# Altium integrated library Analog Devices Switches and Multiplexers Multiplexers (Muxes).IntLib: 481 symbols (part 1 of 23)
Pins are listed as number, name and electrical type; pins without a type are passive.

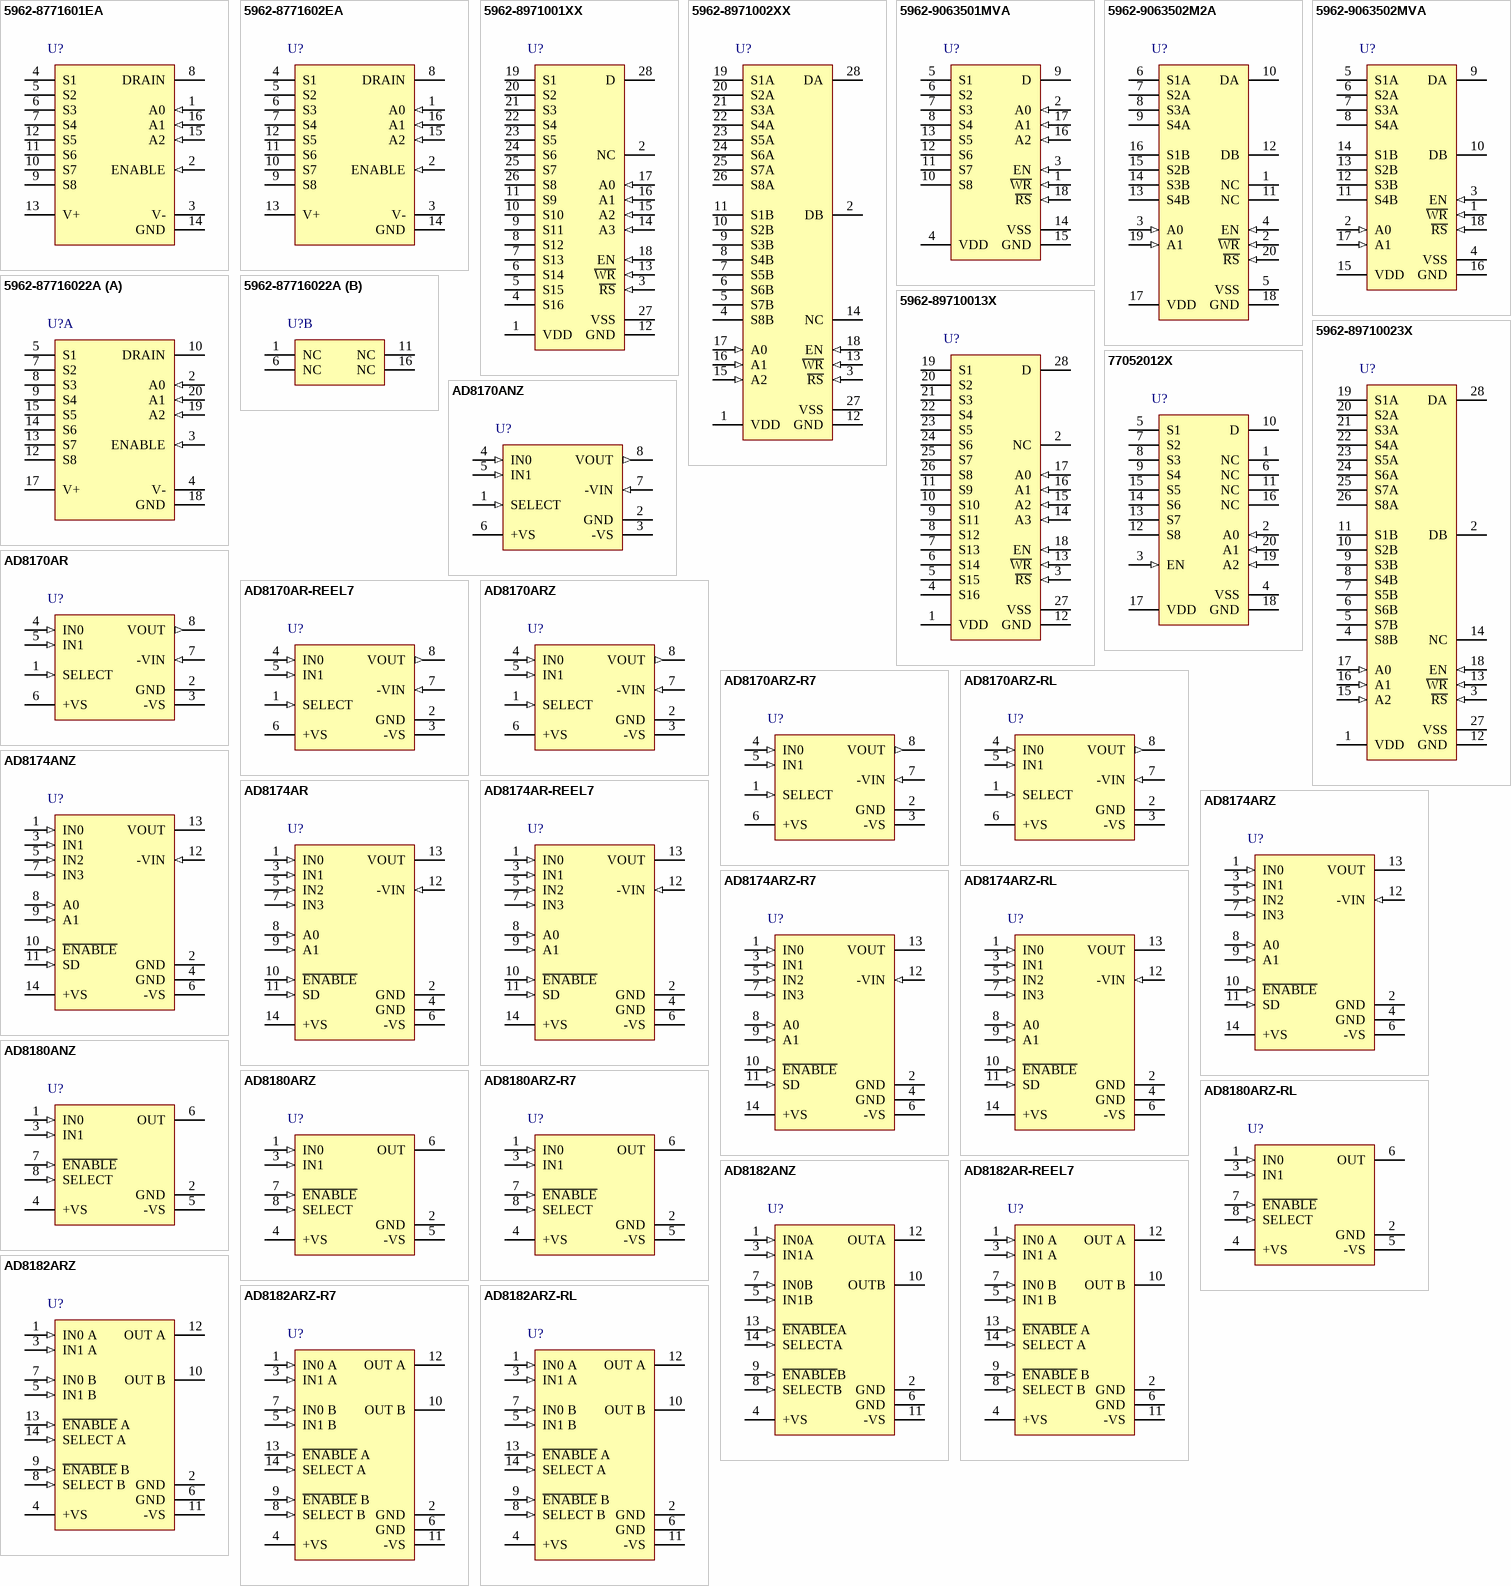
[diagram p0: symbols 5962-8771601EA to AD8182ARZ-RL]

## 5962-8771601EA
designator U?
8-Chan JFET Analog Multiplexer (Overvoltage & Power Supply Loss Protected), -55 to 125 degC, 16-pin DIP (Q-16), Tube; Manufacturer: Analog Devices; PartNumber: 5962-8771601EA; Max Analog Signal Range: +/-10V; Ron (ohms): 220; Supply V Guar Performance: Dual_(+/-15V); t transition (s): 1.5u; DatasheetVersion: Rev. A; PackageVersion: Aug-05; PackageReference: Q-16; PackageDescription: 16-Pin Ceramic Dual In-Line Package, Row spacing 7.62 mm, Pitch 2.54 mm; Supplier 1: Mouser; Supplier Part Number 1: 584-5962-8771601EA; Packing: Tube; Mounting Technology: Through Hole; ComponentLink1Description: Manufacturer URL; ComponentLink1URL: http://www.analog.com/en/index.html; ComponentLink2Description: Datasheet; ComponentLink2URL: http://www.analog.com/static/imported-files/data_sheets/MUX08.pdf; ComponentLink3Description: Package Specification; ComponentLink3URL: http://www.analog.com/static/imported-files/packages/54083157002221Q_16.pdf
footprint ADI-Q-16 (DIP, 16-Leads, Body 21.34x6.73mm, Pitch 2.54mm)
pins: 1 A0 (in), 2 ENABLE (in), 3 V- (power), 4 S1, 5 S2, 6 S3, 7 S4, 8 DRAIN, 9 S8, 10 S7, 11 S6, 12 S5, 13 V+ (power), 14 GND (power), 15 A2 (in), 16 A1 (in)

## 5962-8771602EA
designator U?
8-Chan JFET Analog Multiplexer (Overvoltage & Power Supply Loss Protected), -55 to 125 degC, 20-pin LCC (E-20-1), Tube; Manufacturer: Analog Devices; PartNumber: 5962-8771602EA; Max Analog Signal Range: +/-10V; Ron (ohms): 220; Supply V Guar Performance: Dual_(+/-15V); t transition (s): 1.5u; DatasheetVersion: Rev. A; PackageVersion: Aug-05; PackageReference: Q-16; PackageDescription: 16-Pin Ceramic Dual In-Line Package, Row spacing 7.62 mm, Pitch 2.54 mm; Supplier 1: Mouser; Supplier Part Number 1: 584-5962-8771602EA; Packing: Tube; Mounting Technology: Through Hole; ComponentLink1Description: Manufacturer URL; ComponentLink1URL: http://www.analog.com/en/index.html; ComponentLink2Description: Datasheet; ComponentLink2URL: http://www.analog.com/static/imported-files/data_sheets/MUX08.pdf; ComponentLink3Description: Package Specification; ComponentLink3URL: http://www.analog.com/static/imported-files/packages/54083157002221Q_16.pdf
footprint ADI-Q-16 (DIP, 16-Leads, Body 21.34x6.73mm, Pitch 2.54mm)
pins: 1 A0 (in), 2 ENABLE (in), 3 V- (power), 4 S1, 5 S2, 6 S3, 7 S4, 8 DRAIN, 9 S8, 10 S7, 11 S6, 12 S5, 13 V+ (power), 14 GND (power), 15 A2 (in), 16 A1 (in)

## 5962-8971001XX
designator U?
8-Chan JFET Analog Multiplexer (Overvoltage & Power Supply Loss Protected), -55 to 125 degC, 16-pin DIP (Q-16), Tube; Manufacturer: Analog Devices; PartNumber: 5962-8971001XX; Max Analog Signal Range: Vss to Vdd; Ron (ohms): 280; Supply V Guar Performance: Dual_(+/-12V), Dual_(+/-15V), Single_(+12V), Single_(+15V); t transition (s): 200n; DatasheetVersion: Rev. C; PackageVersion: 030106-A, 03/2006; PackageReference: Q-28-2; PackageDescription: 28-Pin Ceramic Dual In-Line Package, Row spacing 15.24 mm, Pitch 2.54 mm; Supplier 1: Mouser; Supplier Part Number 1: 584-5962-8971001XX; Packing: Tube; Mounting Technology: Through Hole; ComponentLink1Description: Manufacturer URL; ComponentLink1URL: http://www.analog.com/en/index.html; ComponentLink2Description: Datasheet; ComponentLink2URL: http://www.analog.com/static/imported-files/data_sheets/ADG526A_527A.pdf; ComponentLink3Description: Package Specification; ComponentLink3URL: http://www.analog.com/static/imported-files/packages/4045339666127361303Q_28_2.pdf
footprint ADI-Q-28-2 (DIP, 28-Leads, Body 37.85x14.1mm, Pitch 2.54mm)
pins: 1 VDD (power) "Most Positive Power Supply Potential.", 2 NC "No Connect.", 3 ~{RS} (in) "Reset. The R\S\ signal clears both the address and enable data in the latches resulting in no output (all switches off).", 4 S16 "Source Terminal. This pin can be an input or output.", 5 S15 "Source Terminal. This pin can be an input or output.", 6 S14 "Source Terminal. This pin can be an input or output.", 7 S13 "Source Terminal. This pin can be an input or output.", 8 S12 "Source Terminal. This pin can be an input or output.", 9 S11 "Source Terminal. This pin can be an input or output.", 10 S10 "Source Terminal. This pin can be an input or output.", 11 S9 "Source Terminal. This pin can be an input or output.", 12 GND (power) "Ground (0 V) Reference.", 13 ~{WR} (in) "Write. The W\R\ signal latches the state of the address control lines and the enable line.", 14 A3 (in) "Logic Control Inputs. Selects which source terminal is connected to the drain (D).", 15 A2 (in) "Logic Control Inputs. Selects which source terminal is connected to the drain (D).", 16 A1 (in) "Logic Control Inputs. Selects which source terminal is connected to the drain (D).", 17 A0 (in) "Logic Control Inputs. Selects which source terminal is connected to the drain (D).", 18 EN (in) "Enable. Active high logic control input.", 19 S1 "Source Terminal. This pin can be an input or output.", 20 S2 "Source Terminal. This pin can be an input or output.", 21 S3 "Source Terminal. This pin can be an input or output.", 22 S4 "Source Terminal. This pin can be an input or output.", 23 S5 "Source Terminal. This pin can be an input or output.", 24 S6 "Source Terminal. This pin can be an input or output.", 25 S7 "Source Terminal. This pin can be an input or output.", 26 S8 "Source Terminal. This pin can be an input or output.", 27 VSS (power) "Most Negative Power Supply Potential", 28 D "Drain Terminal. Can be an input or an output."

## 5962-8971002XX
designator U?
CMOS Latched 16-Channel Analog Multiplexer, -55 to 125 degC, 28-pin LCC (E-28-1), Tube; Manufacturer: Analog Devices; PartNumber: 5962-8971002XX; Max Analog Signal Range: Vss to Vdd; Ron (ohms): 280; Supply V Guar Performance: Dual_(+/-12V), Dual_(+/-15V), Single_(+12V), Single_(+15V); t transition (s): 200n; DatasheetVersion: Rev. C; PackageVersion: 030106-A, 03/2006; PackageReference: Q-28-2; PackageDescription: 28-Pin Ceramic Dual In-Line Package, Row spacing 15.24 mm, Pitch 2.54 mm; Supplier 1: Mouser; Supplier Part Number 1: N/A; Packing: Tube; Mounting Technology: Through Hole; ComponentLink1Description: Manufacturer URL; ComponentLink1URL: http://www.analog.com/en/index.html; ComponentLink2Description: Datasheet; ComponentLink2URL: http://www.analog.com/static/imported-files/data_sheets/ADG526A_527A.pdf; ComponentLink3Description: Package Specification; ComponentLink3URL: http://www.analog.com/static/imported-files/packages/4045339666127361303Q_28_2.pdf
footprint ADI-Q-28-2 (DIP, 28-Leads, Body 37.85x14.1mm, Pitch 2.54mm)
pins: 1 VDD (power) "Most Positive Power Supply Potential.", 2 DB "Drain Terminal. This pin can be an input or output.", 3 ~{RS} (in) "Reset. The R\S\ signal clears both the address and enable data in the latches resulting in no output (all switches off).", 4 S8B "Source Terminal. This pin can be an input or output.", 5 S7B "Source Terminal. This pin can be an input or output.", 6 S6B "Source Terminal. This pin can be an input or output.", 7 S5B "Source Terminal. This pin can be an input or output.", 8 S4B "Source Terminal. This pin can be an input or output.", 9 S3B "Source Terminal. This pin can be an input or output.", 10 S2B "Source Terminal. This pin can be an input or output.", 11 S1B "Source Terminal. This pin can be an input or output.", 12 GND (power) "Ground (0 V) Reference.", 13 ~{WR} (in) "Write. The W\R\ signal latches the state of the address control lines and the enable line.", 14 NC "No Connect.", 15 A2 (in) "Logic Control Inputs. Selects which source terminal is connected to the drain (D).", 16 A1 (in) "Logic Control Inputs. Selects which source terminal is connected to the drain (D).", 17 A0 (in) "Logic Control Inputs. Selects which source terminal is connected to the drain (D).", 18 EN (in) "Enable. Active high logic control input.", 19 S1A "Source Terminal. This pin can be an input or output.", 20 S2A "Source Terminal. This pin can be an input or output.", 21 S3A "Source Terminal. This pin can be an input or output.", 22 S4A "Source Terminal. This pin can be an input or output.", 23 S5A "Source Terminal. This pin can be an input or output.", 24 S6A "Source Terminal. This pin can be an input or output.", 25 S7A "Source Terminal. This pin can be an input or output.", 26 S8A "Source Terminal. This pin can be an input or output.", 27 VSS (power) "Most Negative Power Supply Potential.", 28 DA "Drain Terminal. This pin can be an input or output."

## 5962-9063501MVA
designator U?
CMOS Latched 16-Channel Analog Multiplexer, -55 to 125 degC, 28-pin DIP (Q-28-2), Tube; Manufacturer: Analog Devices; PartNumber: 5962-9063501MVA; Max Analog Signal Range: Vss to Vdd; Ron (ohms): 280; Supply V Guar Performance: Dual_(+/-12V), Dual_(+/-15V), Single_(+12V), Single_(+15V); t transition (s): 200n; DatasheetVersion: Rev. B; PackageVersion: Dec-04; PackageReference: Q-18; PackageDescription: 18-Pin Ceramic Dual In-Line Package, Row spacing 7.62 mm, Pitch 2.54 mm; Supplier 1: Mouser; Supplier Part Number 1: N/A; Packing: Tube; Mounting Technology: Through Hole; ComponentLink1Description: Manufacturer URL; ComponentLink1URL: http://www.analog.com/en/index.html; ComponentLink2Description: Datasheet; ComponentLink2URL: http://www.analog.com/static/imported-files/data_sheets/ADG528A_529A.pdf; ComponentLink3Description: Package Specification; ComponentLink3URL: http://www.analog.com/static/imported-files/packages/3949539816247344490Q_18.pdf
footprint ADI-Q-18 (DIP, 18-Leads, Body 24.38x6.73mm, Pitch 2.54mm)
pins: 1 ~{WR} (in), 2 A0 (in), 3 EN (in), 4 VDD (power), 5 S1, 6 S2, 7 S3, 8 S4, 9 D, 10 S8, 11 S7, 12 S6, 13 S5, 14 VSS (power), 15 GND (power), 16 A2 (in), 17 A1 (in), 18 ~{RS} (in)

## 5962-9063502M2A
designator U?
CMOS Latched 8-Channel Analog Multiplexer, -55 to 125 degC, 28-pin LCC (E-28-1), Tube; Manufacturer: Analog Devices; PartNumber: 5962-9063502M2A; Max Analog Signal Range: Vss to Vdd; Ron (ohms): 280; Supply V Guar Performance: Dual_(+/-12V), Dual_(+/-15V), Single_(+12V), Single_(+15V); t transition (s): 200n; DatasheetVersion: Rev. B; PackageVersion: Nov-02; PackageReference: P-20A; PackageDescription: 20-Pin Plastic Leaded Chip Carrier, Body 8.97 x 8.97 mm, Pitch 1.27 mm; Supplier 1: Mouser; Supplier Part Number 1: N/A; Packing: Tube; Mounting Technology: Surface Mount; Code_JEDEC: MO-047AA; ComponentLink1Description: Manufacturer URL; ComponentLink1URL: http://www.analog.com/en/index.html; ComponentLink2Description: Datasheet; ComponentLink2URL: http://www.analog.com/static/imported-files/data_sheets/ADG528A_529A.pdf; ComponentLink3Description: Package Specification; ComponentLink3URL: http://www.analog.com/static/imported-files/packages/3121431516544404277643669223804694P20A.pdf
footprint ADI-P-20A_N (PLCC, 20-Leads, Body 8.965x8.965mm, Pitch 1.27mm, IPC Medium Density)
footprint ADI-P-20A_L (PLCC, 20-Leads, Body 8.965x8.965mm, Pitch 1.27mm, IPC High Density)
footprint ADI-P-20A_M (PLCC, 20-Leads, Body 8.965x8.965mm, Pitch 1.27mm, IPC Low Density)
pins: 1 NC, 2 ~{WR} (in), 3 A0 (in), 4 EN (in), 5 VSS (power), 6 S1A, 7 S2A, 8 S3A, 9 S4A, 10 DA, 11 NC, 12 DB, 13 S4B, 14 S3B, 15 S2B, 16 S1B, 17 VDD (power), 18 GND (power), 19 A1 (in), 20 ~{RS} (in)

## 5962-9063502MVA
designator U?
CMOS Latched 8-Channel Analog Multiplexer, -55 to 125 degC, 28-pin DIP (Q-28-2), Tube; Manufacturer: Analog Devices; PartNumber: 5962-9063502MVA; Max Analog Signal Range: Vss to Vdd; Ron (ohms): 280; Supply V Guar Performance: Dual_(+/-12V), Dual_(+/-15V), Single_(+12V), Single_(+15V); t transition (s): 200n; DatasheetVersion: Rev. B; PackageVersion: Dec-04; PackageReference: Q-18; PackageDescription: 18-Pin Ceramic Dual In-Line Package, Row spacing 7.62 mm, Pitch 2.54 mm; Supplier 1: Mouser; Supplier Part Number 1: N/A; Packing: Tube; Mounting Technology: Through Hole; ComponentLink1Description: Manufacturer URL; ComponentLink1URL: http://www.analog.com/en/index.html; ComponentLink2Description: Datasheet; ComponentLink2URL: http://www.analog.com/static/imported-files/data_sheets/ADG528A_529A.pdf; ComponentLink3Description: Package Specification; ComponentLink3URL: http://www.analog.com/static/imported-files/packages/3949539816247344490Q_18.pdf
footprint ADI-Q-18 (DIP, 18-Leads, Body 24.38x6.73mm, Pitch 2.54mm)
pins: 1 ~{WR} (in), 2 A0 (in), 3 EN (in), 4 VSS (power) "Most negative voltage supply", 5 S1A, 6 S2A, 7 S3A, 8 S4A, 9 DA, 10 DB, 11 S4B, 12 S3B, 13 S2B, 14 S1B, 15 VDD (power) "Most positive voltage supply", 16 GND (power), 17 A1 (in), 18 ~{RS} (in)

## 5962-87716022A
designator U?
CMOS Latched 8-Channel Analog Multiplexer, 0 to 70 degC, 18-pin DIP (Q-18), Tube; Manufacturer: Analog Devices; PartNumber: 5962-87716022A; Max Analog Signal Range: +/-10V; Ron (ohms): 220; Supply V Guar Performance: Dual_(+/-15V); t transition (s): 1.5u; DatasheetVersion: Rev. A; PackageVersion: 022106-A, 02/2006; PackageReference: E-20-1; PackageDescription: 20-Terminal Ceramic Leadless Chip Carrier, Body 8.89 x 8.89 mm, Pitch 1.27 mm; Supplier 1: Mouser; Supplier Part Number 1: 584-5962-87716022A; Packing: Tube; Mounting Technology: Surface Mount; ComponentLink1Description: Manufacturer URL; ComponentLink1URL: http://www.analog.com/en/index.html; ComponentLink2Description: Datasheet; ComponentLink2URL: http://www.analog.com/static/imported-files/data_sheets/MUX08.pdf; ComponentLink3Description: Package Specification; ComponentLink3URL: http://www.analog.com/static/imported-files/packages/PKG_PDF/LCC(E)/E_20_1.pdf
footprint ADI-E-20-1_N (LCC, 20-Leads, Body 8.9x8.9mm, Pitch 1.27mm, IPC Medium Density)
footprint ADI-E-20-1_L (LCC, 20-Leads, Body 8.9x8.9mm, Pitch 1.27mm, IPC High Density)
footprint ADI-E-20-1_M (LCC, 20-Leads, Body 8.9x8.9mm, Pitch 1.27mm, IPC Low Density)
part A pins: 2 A0 (in), 3 ENABLE (in), 4 V- (power), 5 S1, 7 S2, 8 S3, 9 S4, 10 DRAIN, 12 S8, 13 S7, 14 S6, 15 S5, 17 V+ (power), 18 GND (power), 19 A2 (in), 20 A1 (in)
part B pins: 1 NC, 6 NC, 11 NC, 16 NC

## 5962-89710013X
designator U?
CMOS Latched 8-Channel Analog Multiplexer, -55 to 125 degC, 20-pin LCC (E-20-1), Tube; Manufacturer: Analog Devices; PartNumber: 5962-89710013X; Max Analog Signal Range: Vss to Vdd; Ron (ohms): 280; Supply V Guar Performance: Dual_(+/-12V), Dual_(+/-15V), Single_(+12V), Single_(+15V); t transition (s): 200n; DatasheetVersion: Rev. C; PackageVersion: 022106-A, 02/2006; PackageReference: E-28-1; PackageDescription: 28-Terminal Ceramic Leadless Chip Carrier, Body 11.43 x 11.43 mm, Pitch 1.27 mm; Supplier 1: Mouser; Supplier Part Number 1: 584-5962-89710013X; Packing: Tube; Mounting Technology: Surface Mount; ComponentLink1Description: Manufacturer URL; ComponentLink1URL: http://www.analog.com/en/index.html; ComponentLink2Description: Datasheet; ComponentLink2URL: http://www.analog.com/static/imported-files/data_sheets/ADG526A_527A.pdf; ComponentLink3Description: Package Specification; ComponentLink3URL: http://www.analog.com/static/imported-files/packages/PKG_PDF/LCC(E)/E_28_1.pdf
footprint ADI-E-28-1_N (LCC, 28-Leads, Body 11.43x11.43mm, Pitch 1.27mm, IPC Medium Density)
footprint ADI-E-28-1_L (LCC, 28-Leads, Body 11.43x11.43mm, Pitch 1.27mm, IPC High Density)
footprint ADI-E-28-1_M (LCC, 28-Leads, Body 11.43x11.43mm, Pitch 1.27mm, IPC Low Density)
pins: 1 VDD (power) "Most Positive Power Supply Potential.", 2 NC "No Connect.", 3 ~{RS} (in) "Reset. The RS signal clears both the address and enable data in the latches resulting in no output (all switches off).", 4 S16 "Source Terminal. This pin can be an input or output.", 5 S15 "Source Terminal. This pin can be an input or output.", 6 S14 "Source Terminal. This pin can be an input or output.", 7 S13 "Source Terminal. This pin can be an input or output.", 8 S12 "Source Terminal. This pin can be an input or output.", 9 S11 "Source Terminal. This pin can be an input or output.", 10 S10 "Source Terminal. This pin can be an input or output.", 11 S9 "Source Terminal. This pin can be an input or output.", 12 GND (power) "Ground (0 V) Reference.", 13 ~{WR} (in) "Write. The WR signal latches the state of the address control lines and the enable line.", 14 A3 (in) "Logic Control Input. Selects which source terminal is connected to the drain (D).", 15 A2 (in) "Logic Control Input. Selects which source terminal is connected to the drain (D).", 16 A1 (in) "Logic Control Input. Selects which source terminal is connected to the drain (D).", 17 A0 (in) "Logic Control Input. Selects which source terminal is connected to the drain (D).", 18 EN (in) "Enable. Active high logic control input.", 19 S1 "Source Terminal. This pin can be an input or output.", 20 S2 "Source Terminal. This pin can be an input or output.", 21 S3 "Source Terminal. This pin can be an input or output.", 22 S4 "Source Terminal. This pin can be an input or output.", 23 S5 "Source Terminal. This pin can be an input or output.", 24 S6 "Source Terminal. This pin can be an input or output.", 25 S7 "Source Terminal. This pin can be an input or output.", 26 S8 "Source Terminal. This pin can be an input or output.", 27 VSS (power) "Most Negative Power Supply Potential.", 28 D "Drain Terminal. This pin can be an input or output."

## 5962-89710023X
designator U?
CMOS Latched 8-Channel Analog Multiplexer, -55 to 125 degC, 18-pin DIP (Q-18), Tube; Manufacturer: Analog Devices; PartNumber: 5962-89710023X; Max Analog Signal Range: Vss to Vdd; Ron (ohms): 280; Supply V Guar Performance: Dual_(+/-12V), Dual_(+/-15V), Single_(+12V), Single_(+15V); t transition (s): 200n; DatasheetVersion: Rev. C; PackageVersion: 022106-A, 02/2006; PackageReference: E-28-1; PackageDescription: 28-Terminal Ceramic Leadless Chip Carrier, Body 11.43 x 11.43 mm, Pitch 1.27 mm; Supplier 1: Mouser; Supplier Part Number 1: N/A; Packing: Tube; Mounting Technology: Surface Mount; ComponentLink1Description: Manufacturer URL; ComponentLink1URL: http://www.analog.com/en/index.html; ComponentLink2Description: Datasheet; ComponentLink2URL: http://www.analog.com/static/imported-files/data_sheets/ADG526A_527A.pdf; ComponentLink3Description: Package Specification; ComponentLink3URL: http://www.analog.com/static/imported-files/packages/PKG_PDF/LCC(E)/E_28_1.pdf
footprint ADI-E-28-1_N (LCC, 28-Leads, Body 11.43x11.43mm, Pitch 1.27mm, IPC Medium Density)
footprint ADI-E-28-1_L (LCC, 28-Leads, Body 11.43x11.43mm, Pitch 1.27mm, IPC High Density)
footprint ADI-E-28-1_M (LCC, 28-Leads, Body 11.43x11.43mm, Pitch 1.27mm, IPC Low Density)
pins: 1 VDD (power) "Most Positive Power Supply Potential.", 2 DB "Drain Terminal. This pin can be an input or output.", 3 ~{RS} (in) "Reset. The R\S\ signal clears both the address and enable data in the latches resulting in no output (all switches off).", 4 S8B "Source Terminal. This pin can be an input or output.", 5 S7B "Source Terminal. This pin can be an input or output.", 6 S6B "Source Terminal. This pin can be an input or output.", 7 S5B "Source Terminal. This pin can be an input or output.", 8 S4B "Source Terminal. This pin can be an input or output.", 9 S3B "Source Terminal. This pin can be an input or output.", 10 S2B "Source Terminal. This pin can be an input or output.", 11 S1B "Source Terminal. This pin can be an input or output.", 12 GND (power) "Ground (0 V) Reference.", 13 ~{WR} (in) "Write. The W\R\ signal latches the state of the address control lines and the enable line.", 14 NC "No Connect.", 15 A2 (in) "Logic Control Inputs. Selects which source terminal is connected to the drain (D).", 16 A1 (in) "Logic Control Inputs. Selects which source terminal is connected to the drain (D).", 17 A0 (in) "Logic Control Inputs. Selects which source terminal is connected to the drain (D).", 18 EN (in) "Enable. Active high logic control input.", 19 S1A "Source Terminal. This pin can be an input or output.", 20 S2A "Source Terminal. This pin can be an input or output.", 21 S3A "Source Terminal. This pin can be an input or output.", 22 S4A "Source Terminal. This pin can be an input or output.", 23 S5A "Source Terminal. This pin can be an input or output.", 24 S6A "Source Terminal. This pin can be an input or output.", 25 S7A "Source Terminal. This pin can be an input or output.", 26 S8A "Source Terminal. This pin can be an input or output.", 27 VSS (power) "Most Negative Power Supply Potential.", 28 DA "Drain Terminal. This pin can be an input or output."

## 77052012X
designator U?
CMOS 8-Channel Analog Multiplexer, 280 Ohm Ron, 20-pin LCC (E-20-1), Tube; Manufacturer: Analog Devices; PartNumber: 77052012X; Max Analog Signal Range: Vss to Vdd; Ron (ohms): 280; t transition (s): 200n; DatasheetVersion: Rev. A; PackageVersion: 022106-A, 02/2006; PackageReference: E-20-1; PackageDescription: 20-Terminal Ceramic Leadless Chip Carrier, Body 8.89 x 8.89 mm, Pitch 1.27 mm; Supplier 1: Digi-Key; Supplier Part Number 1: 77052012X-ND; Supplier 2: Mouser; Supplier Part Number 2: N/A; Packing: Tube; Mounting Technology: Surface Mount; ComponentLink1Description: Manufacturer URL; ComponentLink1URL: http://www.analog.com/en/index.html; ComponentLink2Description: Datasheet; ComponentLink2URL: http://www.analog.com/static/imported-files/data_sheets/ADG508A_509A.pdf; ComponentLink3Description: Package Specification; ComponentLink3URL: http://www.analog.com/static/imported-files/packages/PKG_PDF/LCC(E)/E_20_1.pdf
footprint ADI-E-20-1_N (LCC, 20-Leads, Body 8.9x8.9mm, Pitch 1.27mm, IPC Medium Density)
footprint ADI-E-20-1_L (LCC, 20-Leads, Body 8.9x8.9mm, Pitch 1.27mm, IPC High Density)
footprint ADI-E-20-1_M (LCC, 20-Leads, Body 8.9x8.9mm, Pitch 1.27mm, IPC Low Density)
pins: 1 NC "No Connect.", 2 A0 (in) "Logic Control Input.", 3 EN (in) "Active High Digital Input. When low, the device is disabled and all switches are off.When high, Ax logic inputs determine on switches.", 4 VSS (power) "Most Negative Power Supply Potential in Dual Supplies. In single-supply applications, it can be connected to ground.", 5 S1 "Source Terminal 1. Can be an input or an output.", 6 NC "No Connect.", 7 S2 "Source Terminal 2. Can be an input or an output.", 8 S3 "Source Terminal 3. Can be an input or an output.", 9 S4 "Source Terminal 4. Can be an input or an output.", 10 D "Drain Terminal. Can be an input or an output.", 11 NC "No Connect.", 12 S8 "Source Terminal 8. Can be an input or an output.", 13 S7 "Source Terminal 7. Can be an input or an output.", 14 S6 "Source Terminal 6. Can be an input or an output.", 15 S5 "Source Terminal 5. Can be an input or an output.", 16 NC "No Connect.", 17 VDD (power) "Most Positive Power Supply Potential.", 18 GND (power) "Ground (0 V) Reference.", 19 A2 (in) "Logic Control Input.", 20 A1 (in) "Logic Control Input."

## AD8170ANZ
designator U?
250 MHz, 10 ns Switching Multiplexer with Amplifier, -40 to 85 degC, 8-pin DIP (N-8), Tube; Manufacturer: Analog Devices; PartNumber: AD8170ANZ; Bandwidth (Hz): 250M; Max Analog Signal Range: +/-3.3V; Supply V Guar Performance: Dual_(+/-5V); t transition (s): 9.1n; DatasheetVersion: Rev. 0; PackageVersion: 070606-A, 07/2006; PackageReference: N-8; PackageDescription: 8-Pin Plastic Dual In-Line Package, Row spacing 7.62 mm, Pitch 2.54 mm; Supplier 1: Digi-Key; Supplier Part Number 1: AD8170ANZ-ND; Supplier 2: Farnell; Supplier Part Number 2: 1079331; Supplier 3: Newark; Supplier Part Number 3: 19M0939; Supplier 4: Mouser; Supplier Part Number 4: 584-AD8170ANZ; Packing: Tube; Mounting Technology: Through Hole; Code_JEDEC: MS-001; ComponentLink1Description: Manufacturer URL; ComponentLink1URL: http://www.analog.com/en/index.html; ComponentLink2Description: Datasheet; ComponentLink2URL: http://www.analog.com/static/imported-files/data_sheets/AD8170_8174.pdf; ComponentLink3Description: Package Specification; ComponentLink3URL: http:/www.analog.com/static/imported-files/packages/PKG_PDF/PDIP(N)/N_8.pdf
footprint ADI-N-8 (DIP, 8-Leads, Body 9.59x6.6mm, Pitch 2.54mm)
pins: 1 SELECT (in), 2 GND (power), 3 -VS (power), 4 IN0 (in), 5 IN1 (in), 6 +VS (power), 7 -VIN (in), 8 VOUT (out)

## AD8170AR
designator U?
250 MHz, 10 ns Switching Multiplexer with Amplifier, -40 to 85 degC, 8-pin SOIC (R-8), Tube; Manufacturer: Analog Devices; PartNumber: AD8170AR; Bandwidth (Hz): 250M; Max Analog Signal Range: +/-3.3V; Supply V Guar Performance: Dual_(+/-5V); t transition (s): 9.1n; DatasheetVersion: Rev. 0; PackageVersion: 060506-A, 06/2006; PackageReference: R-8; PackageDescription: 8-Pin Standard Small Outline Package, Body 4.9 x 3.9 mm, Pitch 1.27 mm; Supplier 1: Digi-Key; Supplier Part Number 1: AD8170AR-ND; Supplier 2: Mouser; Supplier Part Number 2: 584-AD8170AR; Packing: Tube; Mounting Technology: Surface Mount; Code_JEDEC: MS-012-AA; ComponentLink1Description: Manufacturer URL; ComponentLink1URL: http://www.analog.com/en/index.html; ComponentLink2Description: Datasheet; ComponentLink2URL: http://www.analog.com/static/imported-files/data_sheets/AD8170_8174.pdf; ComponentLink3Description: Package Specification; ComponentLink3URL: http://www.analog.com/static/imported-files/packages/PKG_PDF/SOIC_Narrow%20(R)/R_8.pdf
footprint ADI-R-8_N (SOIC, 8-Leads, Body 4.9x3.9mm, Pitch 1.27mm, IPC Medium Density)
footprint ADI-R-8_L (SOIC, 8-Leads, Body 4.9x3.9mm, Pitch 1.27mm, IPC High Density)
footprint ADI-R-8_M (SOIC, 8-Leads, Body 4.9x3.9mm, Pitch 1.27mm, IPC Low Density)
pins: 1 SELECT (in), 2 GND (power), 3 -VS (power), 4 IN0 (in), 5 IN1 (in), 6 +VS (power), 7 -VIN (in), 8 VOUT (out)

## AD8170AR-REEL7
designator U?
250 MHz, 10 ns Switching Multiplexer with Amplifier, -40 to 85 degC, 8-pin SOIC (R-8), Reel; Manufacturer: Analog Devices; PartNumber: AD8170AR-REEL7; Bandwidth (Hz): 250M; Max Analog Signal Range: +/-3.3V; Supply V Guar Performance: Dual_(+/-5V); t transition (s): 9.1n; DatasheetVersion: Rev. 0; PackageVersion: 060506-A, 06/2006; PackageReference: R-8; PackageDescription: 8-Pin Standard Small Outline Package, Body 4.9 x 3.9 mm, Pitch 1.27 mm; Supplier 1: Digi-Key; Supplier Part Number 1: AD8170AR-REEL7-ND; Supplier 2: Newark; Supplier Part Number 2: 09B6476; Supplier 3: Mouser; Supplier Part Number 3: 584-AD8170AR-R7; Packing: Reel; Mounting Technology: Surface Mount; Code_JEDEC: MS-012-AA; ComponentLink1Description: Manufacturer URL; ComponentLink1URL: http://www.analog.com/en/index.html; ComponentLink2Description: Datasheet; ComponentLink2URL: http://www.analog.com/static/imported-files/data_sheets/AD8170_8174.pdf; ComponentLink3Description: Package Specification; ComponentLink3URL: http://www.analog.com/static/imported-files/packages/PKG_PDF/SOIC_Narrow%20(R)/R_8.pdf
footprint ADI-R-8_N (SOIC, 8-Leads, Body 4.9x3.9mm, Pitch 1.27mm, IPC Medium Density)
footprint ADI-R-8_L (SOIC, 8-Leads, Body 4.9x3.9mm, Pitch 1.27mm, IPC High Density)
footprint ADI-R-8_M (SOIC, 8-Leads, Body 4.9x3.9mm, Pitch 1.27mm, IPC Low Density)
pins: 1 SELECT (in), 2 GND (power), 3 -VS (power), 4 IN0 (in), 5 IN1 (in), 6 +VS (power), 7 -VIN (in), 8 VOUT (out)

## AD8170ARZ
designator U?
250 MHz, 10 ns Switching Multiplexer with Amplifier, -40 to 85 degC, 8-pin SOIC (R-8), Tube; Manufacturer: Analog Devices; PartNumber: AD8170ARZ; Bandwidth (Hz): 250M; Max Analog Signal Range: +/-3.3V; Supply V Guar Performance: Dual_(+/-5V); t transition (s): 9.1n; DatasheetVersion: Rev. 0; PackageVersion: 060506-A, 06/2006; PackageReference: R-8; PackageDescription: 8-Pin Standard Small Outline Package, Body 4.9 x 3.9 mm, Pitch 1.27 mm; Supplier 1: Digi-Key; Supplier Part Number 1: AD8170ARZ-ND; Supplier 2: Newark; Supplier Part Number 2: 88H0181; Supplier 3: Mouser; Supplier Part Number 3: 584-AD8170ARZ; Packing: Tube; Mounting Technology: Surface Mount; Code_JEDEC: MS-012-AA; ComponentLink1Description: Manufacturer URL; ComponentLink1URL: http://www.analog.com/en/index.html; ComponentLink2Description: Datasheet; ComponentLink2URL: http://www.analog.com/static/imported-files/data_sheets/AD8170_8174.pdf; ComponentLink3Description: Package Specification; ComponentLink3URL: http://www.analog.com/static/imported-files/packages/PKG_PDF/SOIC_Narrow%20(R)/R_8.pdf
footprint ADI-R-8_N (SOIC, 8-Leads, Body 4.9x3.9mm, Pitch 1.27mm, IPC Medium Density)
footprint ADI-R-8_L (SOIC, 8-Leads, Body 4.9x3.9mm, Pitch 1.27mm, IPC High Density)
footprint ADI-R-8_M (SOIC, 8-Leads, Body 4.9x3.9mm, Pitch 1.27mm, IPC Low Density)
pins: 1 SELECT (in), 2 GND (power), 3 -VS (power), 4 IN0 (in), 5 IN1 (in), 6 +VS (power), 7 -VIN (in), 8 VOUT (out)

## AD8170ARZ-R7
designator U?
250 MHz, 10 ns Switching Multiplexer with Amplifier, -40 to 85 degC, 8-pin SOIC (R-8), Reel; Manufacturer: Analog Devices; PartNumber: AD8170ARZ-R7; Bandwidth (Hz): 250M; Max Analog Signal Range: +/-3.3V; Supply V Guar Performance: Dual_(+/-5V); t transition (s): 9.1n; DatasheetVersion: Rev. 0; PackageVersion: 060506-A, 06/2006; PackageReference: R-8; PackageDescription: 8-Pin Standard Small Outline Package, Body 4.9 x 3.9 mm, Pitch 1.27 mm; Supplier 1: Digi-Key; Supplier Part Number 1: AD8170ARZ-R7TR-ND; Supplier 2: Digi-Key; Supplier Part Number 2: AD8170ARZ-R7CT-ND; Supplier 3: Digi-Key; Supplier Part Number 3: AD8170ARZ-R7DKR-ND; Supplier 4: Mouser; Supplier Part Number 4: 584-AD8170ARZ-R7; Packing: Reel; Mounting Technology: Surface Mount; Code_JEDEC: MS-012-AA; ComponentLink1Description: Manufacturer URL; ComponentLink1URL: http://www.analog.com/en/index.html; ComponentLink2Description: Datasheet; ComponentLink2URL: http://www.analog.com/static/imported-files/data_sheets/AD8170_8174.pdf; ComponentLink3Description: Package Specification; ComponentLink3URL: http://www.analog.com/static/imported-files/packages/PKG_PDF/SOIC_Narrow%20(R)/R_8.pdf
footprint ADI-R-8_N (SOIC, 8-Leads, Body 4.9x3.9mm, Pitch 1.27mm, IPC Medium Density)
footprint ADI-R-8_L (SOIC, 8-Leads, Body 4.9x3.9mm, Pitch 1.27mm, IPC High Density)
footprint ADI-R-8_M (SOIC, 8-Leads, Body 4.9x3.9mm, Pitch 1.27mm, IPC Low Density)
pins: 1 SELECT (in), 2 GND (power), 3 -VS (power), 4 IN0 (in), 5 IN1 (in), 6 +VS (power), 7 -VIN (in), 8 VOUT (out)

## AD8170ARZ-RL
designator U?
250 MHz, 10 ns Switching Multiplexer with Amplifier, -40 to 85 degC, 8-pin SOIC (R-8), Reel; Manufacturer: Analog Devices; PartNumber: AD8170ARZ-RL; Bandwidth (Hz): 250M; Max Analog Signal Range: +/-3.3V; Supply V Guar Performance: Dual_(+/-5V); t transition (s): 9.1n; DatasheetVersion: Rev. 0; PackageVersion: 060506-A, 06/2006; PackageReference: R-8; PackageDescription: 8-Pin Standard Small Outline Package, Body 4.9 x 3.9 mm, Pitch 1.27 mm; Supplier 1: Digi-Key; Supplier Part Number 1: AD8170ARZ-RL-ND; Supplier 2: Mouser; Supplier Part Number 2: 584-AD8170ARZ-R; Packing: Reel; Mounting Technology: Surface Mount; Code_JEDEC: MS-012-AA; ComponentLink1Description: Manufacturer URL; ComponentLink1URL: http://www.analog.com/en/index.html; ComponentLink2Description: Datasheet; ComponentLink2URL: http://www.analog.com/static/imported-files/data_sheets/AD8170_8174.pdf; ComponentLink3Description: Package Specification; ComponentLink3URL: http://www.analog.com/static/imported-files/packages/PKG_PDF/SOIC_Narrow%20(R)/R_8.pdf
footprint ADI-R-8_N (SOIC, 8-Leads, Body 4.9x3.9mm, Pitch 1.27mm, IPC Medium Density)
footprint ADI-R-8_L (SOIC, 8-Leads, Body 4.9x3.9mm, Pitch 1.27mm, IPC High Density)
footprint ADI-R-8_M (SOIC, 8-Leads, Body 4.9x3.9mm, Pitch 1.27mm, IPC Low Density)
pins: 1 SELECT (in), 2 GND (power), 3 -VS (power), 4 IN0 (in), 5 IN1 (in), 6 +VS (power), 7 -VIN (in), 8 VOUT (out)

## AD8174ANZ
designator U?
250 MHz, 10 ns Switching Multiplexer with Amplifier, -40 to 85 degC, 14-pin DIP (N-14), Tube; Manufacturer: Analog Devices; PartNumber: AD8174ANZ; Bandwidth (Hz): 250M; Max Analog Signal Range: +/-3.3V; Supply V Guar Performance: Dual_(+/-5V); t transition (s): 9.1n; DatasheetVersion: Rev. 0; PackageVersion: 070606-A, 07/2006; PackageReference: N-14; PackageDescription: 14-Pin Plastic Dual In-Line Package, Row spacing 7.62 mm, Pitch 2.54 mm; Supplier 1: Digi-Key; Supplier Part Number 1: AD8174ANZ-ND; Supplier 2: Newark; Supplier Part Number 2: 59K6449; Supplier 3: Mouser; Supplier Part Number 3: 584-AD8174ANZ; Packing: Tube; Mounting Technology: Through Hole; Code_JEDEC: MS-001; ComponentLink1Description: Manufacturer URL; ComponentLink1URL: http://www.analog.com/en/index.html; ComponentLink2Description: Datasheet; ComponentLink2URL: http://www.analog.com/static/imported-files/data_sheets/AD8170_8174.pdf; ComponentLink3Description: Package Specification; ComponentLink3URL: http://www.analog.com/static/imported-files/packages/N_14.pdf
footprint ADI-N-14 (DIP, 14-Leads, Body 19.18x6.605mm, Pitch 2.54mm)
pins: 1 IN0 (in), 2 GND (power), 3 IN1 (in), 4 GND (power), 5 IN2 (in), 6 -VS (power), 7 IN3 (in), 8 A0 (in), 9 A1 (in), 10 ~{ENABLE} (in), 11 SD (in), 12 -VIN (in), 13 VOUT (hiz), 14 +VS (power)

## AD8174AR
designator U?
250 MHz, 10 ns Switching Multiplexer with Amplifier, -40 to 85 degC, 14-pin SOIC (R-14), Tube; Manufacturer: Analog Devices; PartNumber: AD8174AR; Bandwidth (Hz): 250M; Max Analog Signal Range: +/-3.3V; Supply V Guar Performance: Dual_(+/-5V); t transition (s): 9.1n; DatasheetVersion: Rev. 0; PackageVersion: 060606-A , 06/2006; PackageReference: R-14; PackageDescription: 14-Pin Standard Small Outline Package, Body 8.65 x 3.9 mm, Pitch 1.27 mm; Supplier 1: Digi-Key; Supplier Part Number 1: AD8174AR-ND; Supplier 2: Mouser; Supplier Part Number 2: 584-AD8174AR; Packing: Tube; Mounting Technology: Surface Mount; Code_JEDEC: MS-012-AB; ComponentLink1Description: Manufacturer URL; ComponentLink1URL: http://www.analog.com/en/index.html; ComponentLink2Description: Datasheet; ComponentLink2URL: http://www.analog.com/static/imported-files/data_sheets/AD8170_8174.pdf; ComponentLink3Description: Package Specification; ComponentLink3URL: http://www.analog.com/static/imported-files/packages/PKG_PDF/SOIC_Narrow%20(R)/R_14.pdf
footprint ADI-R-14_N (SOIC, 14-Leads, Body 8.65x3.9mm, Pitch 1.27mm, IPC Medium Density)
footprint ADI-R-14_L (SOIC, 14-Leads, Body 8.65x3.9mm, Pitch 1.27mm, IPC High Density)
footprint ADI-R-14_M (SOIC, 14-Leads, Body 8.65x3.9mm, Pitch 1.27mm, IPC Low Density)
pins: 1 IN0 (in), 2 GND (power), 3 IN1 (in), 4 GND (power), 5 IN2 (in), 6 -VS (power), 7 IN3 (in), 8 A0 (in), 9 A1 (in), 10 ~{ENABLE} (in), 11 SD (in), 12 -VIN (in), 13 VOUT (hiz), 14 +VS (power)

## AD8174AR-REEL7
designator U?
250 MHz, 10 ns Switching Multiplexer with Amplifier, -40 to 85 degC, 14-pin SOIC (R-14), Reel; Manufacturer: Analog Devices; PartNumber: AD8174AR-REEL7; Bandwidth (Hz): 250M; Max Analog Signal Range: +/-3.3V; Supply V Guar Performance: Dual_(+/-5V); t transition (s): 9.1n; DatasheetVersion: Rev. 0; PackageVersion: 060606-A , 06/2006; PackageReference: R-14; PackageDescription: 14-Pin Standard Small Outline Package, Body 8.65 x 3.9 mm, Pitch 1.27 mm; Supplier 1: Digi-Key; Supplier Part Number 1: AD8174AR-REEL7-ND; Supplier 2: Newark; Supplier Part Number 2: 09B6479; Supplier 3: Mouser; Supplier Part Number 3: 584-AD8174AR-R7; Packing: Reel; Mounting Technology: Surface Mount; Code_JEDEC: MS-012-AB; ComponentLink1Description: Manufacturer URL; ComponentLink1URL: http://www.analog.com/en/index.html; ComponentLink2Description: Datasheet; ComponentLink2URL: http://www.analog.com/static/imported-files/data_sheets/AD8170_8174.pdf; ComponentLink3Description: Package Specification; ComponentLink3URL: http://www.analog.com/static/imported-files/packages/PKG_PDF/SOIC_Narrow%20(R)/R_14.pdf
footprint ADI-R-14_N (SOIC, 14-Leads, Body 8.65x3.9mm, Pitch 1.27mm, IPC Medium Density)
footprint ADI-R-14_L (SOIC, 14-Leads, Body 8.65x3.9mm, Pitch 1.27mm, IPC High Density)
footprint ADI-R-14_M (SOIC, 14-Leads, Body 8.65x3.9mm, Pitch 1.27mm, IPC Low Density)
pins: 1 IN0 (in), 2 GND (power), 3 IN1 (in), 4 GND (power), 5 IN2 (in), 6 -VS (power), 7 IN3 (in), 8 A0 (in), 9 A1 (in), 10 ~{ENABLE} (in), 11 SD (in), 12 -VIN (in), 13 VOUT (hiz), 14 +VS (power)

## AD8174ARZ
designator U?
250 MHz, 10 ns Switching Multiplexer with Amplifier, -40 to 85 degC, 14-pin SOIC (R-14), Tube; Manufacturer: Analog Devices; PartNumber: AD8174ARZ; Bandwidth (Hz): 250M; Max Analog Signal Range: +/-3.3V; Supply V Guar Performance: Dual_(+/-5V); t transition (s): 9.1n; DatasheetVersion: Rev. 0; PackageVersion: 060606-A , 06/2006; PackageReference: R-14; PackageDescription: 14-Pin Standard Small Outline Package, Body 8.65 x 3.9 mm, Pitch 1.27 mm; Supplier 1: Digi-Key; Supplier Part Number 1: AD8174ARZ-ND; Supplier 2: Farnell; Supplier Part Number 2: 2102506; Supplier 3: Newark; Supplier Part Number 3: 88H0184; Supplier 4: Mouser; Supplier Part Number 4: 584-AD8174ARZ; Packing: Tube; Mounting Technology: Surface Mount; Code_JEDEC: MS-012-AB; ComponentLink1Description: Manufacturer URL; ComponentLink1URL: http://www.analog.com/en/index.html; ComponentLink2Description: Datasheet; ComponentLink2URL: http://www.analog.com/static/imported-files/data_sheets/AD8170_8174.pdf; ComponentLink3Description: Package Specification; ComponentLink3URL: http://www.analog.com/static/imported-files/packages/PKG_PDF/SOIC_Narrow%20(R)/R_14.pdf
footprint ADI-R-14_N (SOIC, 14-Leads, Body 8.65x3.9mm, Pitch 1.27mm, IPC Medium Density)
footprint ADI-R-14_L (SOIC, 14-Leads, Body 8.65x3.9mm, Pitch 1.27mm, IPC High Density)
footprint ADI-R-14_M (SOIC, 14-Leads, Body 8.65x3.9mm, Pitch 1.27mm, IPC Low Density)
pins: 1 IN0 (in), 2 GND (power), 3 IN1 (in), 4 GND (power), 5 IN2 (in), 6 -VS (power), 7 IN3 (in), 8 A0 (in), 9 A1 (in), 10 ~{ENABLE} (in), 11 SD (in), 12 -VIN (in), 13 VOUT (hiz), 14 +VS (power)

## AD8174ARZ-R7
designator U?
250 MHz, 10 ns Switching Multiplexer with Amplifier, -40 to 85 degC, 14-pin SOIC (R-14), Reel; Manufacturer: Analog Devices; PartNumber: AD8174ARZ-R7; Bandwidth (Hz): 250M; Max Analog Signal Range: +/-3.3V; Supply V Guar Performance: Dual_(+/-5V); t transition (s): 9.1n; DatasheetVersion: Rev. 0; PackageVersion: 060606-A , 06/2006; PackageReference: R-14; PackageDescription: 14-Pin Standard Small Outline Package, Body 8.65 x 3.9 mm, Pitch 1.27 mm; Supplier 1: Digi-Key; Supplier Part Number 1: AD8174ARZ-R7-ND; Supplier 2: Newark; Supplier Part Number 2: 88H0186; Supplier 3: Mouser; Supplier Part Number 3: 584-AD8174ARZ-R7; Packing: Reel; Mounting Technology: Surface Mount; Code_JEDEC: MS-012-AB; ComponentLink1Description: Manufacturer URL; ComponentLink1URL: http://www.analog.com/en/index.html; ComponentLink2Description: Datasheet; ComponentLink2URL: http://www.analog.com/static/imported-files/data_sheets/AD8170_8174.pdf; ComponentLink3Description: Package Specification; ComponentLink3URL: http://www.analog.com/static/imported-files/packages/PKG_PDF/SOIC_Narrow%20(R)/R_14.pdf
footprint ADI-R-14_N (SOIC, 14-Leads, Body 8.65x3.9mm, Pitch 1.27mm, IPC Medium Density)
footprint ADI-R-14_L (SOIC, 14-Leads, Body 8.65x3.9mm, Pitch 1.27mm, IPC High Density)
footprint ADI-R-14_M (SOIC, 14-Leads, Body 8.65x3.9mm, Pitch 1.27mm, IPC Low Density)
pins: 1 IN0 (in), 2 GND (power), 3 IN1 (in), 4 GND (power), 5 IN2 (in), 6 -VS (power), 7 IN3 (in), 8 A0 (in), 9 A1 (in), 10 ~{ENABLE} (in), 11 SD (in), 12 -VIN (in), 13 VOUT (hiz), 14 +VS (power)

## AD8174ARZ-RL
designator U?
250 MHz, 10 ns Switching Multiplexer with Amplifier, -40 to 85 degC, 14-pin SOIC (R-14), Reel; Manufacturer: Analog Devices; PartNumber: AD8174ARZ-RL; Bandwidth (Hz): 250M; Max Analog Signal Range: +/-3.3V; Supply V Guar Performance: Dual_(+/-5V); t transition (s): 9.1n; DatasheetVersion: Rev. 0; PackageVersion: 060606-A , 06/2006; PackageReference: R-14; PackageDescription: 14-Pin Standard Small Outline Package, Body 8.65 x 3.9 mm, Pitch 1.27 mm; Supplier 1: Digi-Key; Supplier Part Number 1: AD8174ARZ-RL-ND; Supplier 2: Mouser; Supplier Part Number 2: 584-AD8174ARZ-R; Packing: Reel; Mounting Technology: Surface Mount; Code_JEDEC: MS-012-AB; ComponentLink1Description: Manufacturer URL; ComponentLink1URL: http://www.analog.com/en/index.html; ComponentLink2Description: Datasheet; ComponentLink2URL: http://www.analog.com/static/imported-files/data_sheets/AD8170_8174.pdf; ComponentLink3Description: Package Specification; ComponentLink3URL: http://www.analog.com/static/imported-files/packages/PKG_PDF/SOIC_Narrow%20(R)/R_14.pdf
footprint ADI-R-14_N (SOIC, 14-Leads, Body 8.65x3.9mm, Pitch 1.27mm, IPC Medium Density)
footprint ADI-R-14_L (SOIC, 14-Leads, Body 8.65x3.9mm, Pitch 1.27mm, IPC High Density)
footprint ADI-R-14_M (SOIC, 14-Leads, Body 8.65x3.9mm, Pitch 1.27mm, IPC Low Density)
pins: 1 IN0 (in), 2 GND (power), 3 IN1 (in), 4 GND (power), 5 IN2 (in), 6 -VS (power), 7 IN3 (in), 8 A0 (in), 9 A1 (in), 10 ~{ENABLE} (in), 11 SD (in), 12 -VIN (in), 13 VOUT (hiz), 14 +VS (power)

## AD8180ANZ
designator U?
930 MHz, 3.8 mA 10 ns Switching Multiplexers, 14 ns, -40 to 85 degC, 8-pin DIP (N-8), Tube; Manufacturer: Analog Devices; PartNumber: AD8180ANZ; Bandwidth (Hz): 930M; Max Analog Signal Range: +/-3.3V; Supply V Guar Performance: Dual_(+/-5V); t transition (s): 14ns; DatasheetVersion: Rev. B; PackageVersion: 070606-A, 07/2006; PackageReference: N-8; PackageDescription: 8-Pin Plastic Dual In-Line Package, Row spacing 7.62 mm, Pitch 2.54 mm; Supplier 1: Digi-Key; Supplier Part Number 1: AD8180ANZ-ND; Supplier 2: Mouser; Supplier Part Number 2: 584-AD8180ANZ; Packing: Tube; Mounting Technology: Through Hole; Code_JEDEC: MS-001; ComponentLink1Description: Manufacturer URL; ComponentLink1URL: http://www.analog.com/en/index.html; ComponentLink2Description: Datasheet; ComponentLink2URL: http://www.analog.com/static/imported-files/data_sheets/AD8180_8182.pdf; ComponentLink3Description: Package Specification; ComponentLink3URL: http:/www.analog.com/static/imported-files/packages/PKG_PDF/PDIP(N)/N_8.pdf
footprint ADI-N-8 (DIP, 8-Leads, Body 9.59x6.6mm, Pitch 2.54mm)
pins: 1 IN0 (in), 2 GND (power), 3 IN1 (in), 4 +VS (power), 5 -VS (power), 6 OUT (hiz), 7 ~{ENABLE} (in), 8 SELECT (in)

## AD8180ARZ
designator U?
930 MHz, 3.8 mA 10 ns Switching Multiplexers, 14 ns, -40 to 85 degC, 8-pin SOIC (R-8), Tube; Manufacturer: Analog Devices; PartNumber: AD8180ARZ; Bandwidth (Hz): 930M; Max Analog Signal Range: +/-3.3V; Supply V Guar Performance: Dual_(+/-5V); t transition (s): 14ns; DatasheetVersion: Rev. B; PackageVersion: 060506-A, 06/2006; PackageReference: R-8; PackageDescription: 8-Pin Standard Small Outline Package, Body 4.9 x 3.9 mm, Pitch 1.27 mm; Supplier 1: Digi-Key; Supplier Part Number 1: AD8180ARZ-ND; Supplier 2: Farnell; Supplier Part Number 2: 2305787; Supplier 3: Newark; Supplier Part Number 3: 59K6452; Supplier 4: Mouser; Supplier Part Number 4: 584-AD8180ARZ; Packing: Tube; Mounting Technology: Surface Mount; Code_JEDEC: MS-012-AA; ComponentLink1Description: Manufacturer URL; ComponentLink1URL: http://www.analog.com/en/index.html; ComponentLink2Description: Datasheet; ComponentLink2URL: http://www.analog.com/static/imported-files/data_sheets/AD8180_8182.pdf; ComponentLink3Description: Package Specification; ComponentLink3URL: http://www.analog.com/static/imported-files/packages/PKG_PDF/SOIC_Narrow%20(R)/R_8.pdf
footprint ADI-R-8_N (SOIC, 8-Leads, Body 4.9x3.9mm, Pitch 1.27mm, IPC Medium Density)
footprint ADI-R-8_L (SOIC, 8-Leads, Body 4.9x3.9mm, Pitch 1.27mm, IPC High Density)
footprint ADI-R-8_M (SOIC, 8-Leads, Body 4.9x3.9mm, Pitch 1.27mm, IPC Low Density)
pins: 1 IN0 (in), 2 GND (power), 3 IN1 (in), 4 +VS (power), 5 -VS (power), 6 OUT (hiz), 7 ~{ENABLE} (in), 8 SELECT (in)

## AD8180ARZ-R7
designator U?
930 MHz, 3.8 mA 10 ns Switching Multiplexers, 14 ns, -40 to 85 degC, 8-pin SOIC (R-8), Reel; Manufacturer: Analog Devices; PartNumber: AD8180ARZ-R7; Bandwidth (Hz): 930M; Max Analog Signal Range: +/-3.3V; Supply V Guar Performance: Dual_(+/-5V); t transition (s): 14ns; DatasheetVersion: Rev. B; PackageVersion: 060506-A, 06/2006; PackageReference: R-8; PackageDescription: 8-Pin Standard Small Outline Package, Body 4.9 x 3.9 mm, Pitch 1.27 mm; Supplier 1: Digi-Key; Supplier Part Number 1: AD8180ARZ-R7TR-ND; Supplier 2: Digi-Key; Supplier Part Number 2: AD8180ARZ-R7CT-ND; Supplier 3: Digi-Key; Supplier Part Number 3: AD8180ARZ-R7DKR-ND; Supplier 4: Newark; Supplier Part Number 4: 59K6454; Supplier 5: Mouser; Supplier Part Number 5: 584-AD8180ARZ-R7; Packing: Reel; Mounting Technology: Surface Mount; Code_JEDEC: MS-012-AA; ComponentLink1Description: Manufacturer URL; ComponentLink1URL: http://www.analog.com/en/index.html; ComponentLink2Description: Datasheet; ComponentLink2URL: http://www.analog.com/static/imported-files/data_sheets/AD8180_8182.pdf; ComponentLink3Description: Package Specification; ComponentLink3URL: http://www.analog.com/static/imported-files/packages/PKG_PDF/SOIC_Narrow%20(R)/R_8.pdf
footprint ADI-R-8_N (SOIC, 8-Leads, Body 4.9x3.9mm, Pitch 1.27mm, IPC Medium Density)
footprint ADI-R-8_L (SOIC, 8-Leads, Body 4.9x3.9mm, Pitch 1.27mm, IPC High Density)
footprint ADI-R-8_M (SOIC, 8-Leads, Body 4.9x3.9mm, Pitch 1.27mm, IPC Low Density)
pins: 1 IN0 (in), 2 GND (power), 3 IN1 (in), 4 +VS (power), 5 -VS (power), 6 OUT (hiz), 7 ~{ENABLE} (in), 8 SELECT (in)

## AD8180ARZ-RL
designator U?
930 MHz, 3.8 mA 10 ns Switching Multiplexers, 14 ns, -40 to 85 degC, 8-pin SOIC (R-8), Reel; Manufacturer: Analog Devices; PartNumber: AD8180ARZ-RL; Bandwidth (Hz): 930M; Max Analog Signal Range: +/-3.3V; Supply V Guar Performance: Dual_(+/-5V); t transition (s): 14ns; DatasheetVersion: Rev. B; PackageVersion: 060506-A, 06/2006; PackageReference: R-8; PackageDescription: 8-Pin Standard Small Outline Package, Body 4.9 x 3.9 mm, Pitch 1.27 mm; Supplier 1: Digi-Key; Supplier Part Number 1: AD8180ARZ-RL-ND; Supplier 2: Mouser; Supplier Part Number 2: 584-AD8180ARZ-R; Packing: Reel; Mounting Technology: Surface Mount; Code_JEDEC: MS-012-AA; ComponentLink1Description: Manufacturer URL; ComponentLink1URL: http://www.analog.com/en/index.html; ComponentLink2Description: Datasheet; ComponentLink2URL: http://www.analog.com/static/imported-files/data_sheets/AD8180_8182.pdf; ComponentLink3Description: Package Specification; ComponentLink3URL: http://www.analog.com/static/imported-files/packages/PKG_PDF/SOIC_Narrow%20(R)/R_8.pdf
footprint ADI-R-8_N (SOIC, 8-Leads, Body 4.9x3.9mm, Pitch 1.27mm, IPC Medium Density)
footprint ADI-R-8_L (SOIC, 8-Leads, Body 4.9x3.9mm, Pitch 1.27mm, IPC High Density)
footprint ADI-R-8_M (SOIC, 8-Leads, Body 4.9x3.9mm, Pitch 1.27mm, IPC Low Density)
pins: 1 IN0 (in), 2 GND (power), 3 IN1 (in), 4 +VS (power), 5 -VS (power), 6 OUT (hiz), 7 ~{ENABLE} (in), 8 SELECT (in)

## AD8182ANZ
designator U?
750 MHz, 3.8 mA 10 ns Switching Multiplexers, -40 to 85 degC, 14-pin DIP (N-14), Tube; Manufacturer: Analog Devices; PartNumber: AD8182ANZ; Bandwidth (Hz): 780M; Max Analog Signal Range: +/-3.3V; Supply V Guar Performance: Dual_(+/-5V); t transition (s): 10n; DatasheetVersion: Rev. B; PackageVersion: 070606-A, 07/2006; PackageReference: N-14; PackageDescription: 14-Pin Plastic Dual In-Line Package, Row spacing 7.62 mm, Pitch 2.54 mm; Supplier 1: Digi-Key; Supplier Part Number 1: AD8182ANZ-ND; Supplier 2: Newark; Supplier Part Number 2: 59K6455; Supplier 3: Mouser; Supplier Part Number 3: 584-AD8182ANZ; Packing: Tube; Mounting Technology: Through Hole; Code_JEDEC: MS-001; ComponentLink1Description: Manufacturer URL; ComponentLink1URL: http://www.analog.com/en/index.html; ComponentLink2Description: Datasheet; ComponentLink2URL: http://www.analog.com/static/imported-files/data_sheets/AD8180_8182.pdf; ComponentLink3Description: Package Specification; ComponentLink3URL: http://www.analog.com/static/imported-files/packages/N_14.pdf
footprint ADI-N-14 (DIP, 14-Leads, Body 19.18x6.605mm, Pitch 2.54mm)
pins: 1 IN0A (in), 2 GND (power), 3 IN1A (in), 4 +VS (power), 5 IN1B (in), 6 GND (power), 7 IN0B (in), 8 SELECTB (in), 9 ~{ENABLE}B (in), 10 OUTB (hiz), 11 -VS (power), 12 OUTA (hiz), 13 ~{ENABLE}A (in), 14 SELECTA (in)

## AD8182AR-REEL7
designator U?
750 MHz, 3.8 mA 10 ns Switching Multiplexers, -40 to 85 degC, 14-pin SOIC (R-14), Reel; Manufacturer: Analog Devices; PartNumber: AD8182AR-REEL7; Bandwidth (Hz): 780M; Max Analog Signal Range: +/-3.3V; Supply V Guar Performance: Dual_(+/-5V); t transition (s): 10n; DatasheetVersion: Rev. B; PackageVersion: 060606-A , 06/2006; PackageReference: R-14; PackageDescription: 14-Pin Standard Small Outline Package, Body 8.65 x 3.9 mm, Pitch 1.27 mm; Supplier 1: Digi-Key; Supplier Part Number 1: AD8182AR-REEL7TR-ND; Supplier 2: Digi-Key; Supplier Part Number 2: AD8182AR-REEL7CT-ND; Supplier 3: Digi-Key; Supplier Part Number 3: AD8182AR-REEL7DKR-ND; Supplier 4: Newark; Supplier Part Number 4: 09B6489; Supplier 5: Mouser; Supplier Part Number 5: 584-AD8182AR-R7; Packing: Reel; Mounting Technology: Surface Mount; Code_JEDEC: MS-012-AB; ComponentLink1Description: Manufacturer URL; ComponentLink1URL: http://www.analog.com/en/index.html; ComponentLink2Description: Datasheet; ComponentLink2URL: http://www.analog.com/static/imported-files/data_sheets/AD8180_8182.pdf; ComponentLink3Description: Package Specification; ComponentLink3URL: http://www.analog.com/static/imported-files/packages/PKG_PDF/SOIC_Narrow%20(R)/R_14.pdf
footprint ADI-R-14_N (SOIC, 14-Leads, Body 8.65x3.9mm, Pitch 1.27mm, IPC Medium Density)
footprint ADI-R-14_L (SOIC, 14-Leads, Body 8.65x3.9mm, Pitch 1.27mm, IPC High Density)
footprint ADI-R-14_M (SOIC, 14-Leads, Body 8.65x3.9mm, Pitch 1.27mm, IPC Low Density)
pins: 1 IN0 A (in), 2 GND (power), 3 IN1 A (in), 4 +VS (power), 5 IN1 B (in), 6 GND (power), 7 IN0 B (in), 8 SELECT B (in), 9 ~{ENABLE} B (in), 10 OUT B (hiz), 11 -VS (power), 12 OUT A (hiz), 13 ~{ENABLE} A (in), 14 SELECT A (in)